# EAGLE library part 90325-0010 (library Molex_By_element14_Batch_1)
HEADER
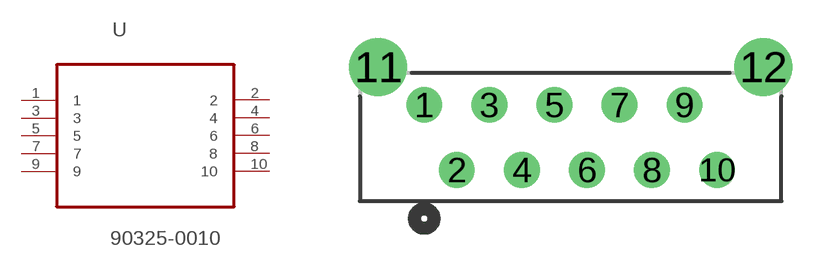
[diagram p37: symbol with the pads of MOLEX_90325-0010; footprint MOLEX_90325-0010]

Designator prefix U

## 90325-0010 (MPN: 90325-0010; OC_FARNELL: 673249; OC_NEWARK: 46WX961; PACKAGE: HEADER, 1.27MM, 10 WAY; SUPPLIER: Molex)  [MOLEX_90325-0010]
1  1  pas
2  2  pas
3  3  pas
4  4  pas
5  5  pas
6  6  pas
7  7  pas
8  8  pas
9  9  pas
10  10  pas

## Footprint MOLEX_90325-0010 (pad centres in mm)
drill 0.889: 1 0,5.08; 2 1.27,2.54; 3 2.54,5.08; 4 3.81,2.54; 5 5.08,5.08; 6 6.35,2.54; 7 7.62,5.08; 8 8.89,2.54; 9 10.16,5.08; 10 11.43,2.54
drill 1.499: 11 -1.803,6.553; 12 13.233,6.553